# EAGLE library part GYRO_DUAL_XY (library SUCHAI)
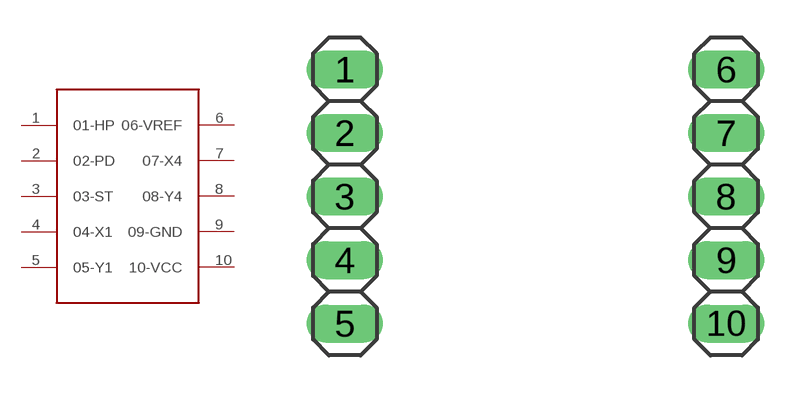
[diagram p3: symbol with the pads of 1X05; footprint 1X05]

Designator prefix -

## GYRO_DUAL_XY  [1X05]
1  01-HP
2  02-PD
3  03-ST
4  04-X1
5  05-Y1
6  06-VREF
7  07-X4
8  08-Y4
9  09-GND
10  10-VCC

## Footprint 1X05 (pad centres in mm)
Pin header for Sparkfun's gyroscopes Distance (bw columns) : 15, 24 mm / 0.6 inches Pitch : 2.54 mm / 0.1 inches
drill 1.016 long: 1 -7.62,5.08; 2 -7.62,2.54; 3 -7.62,0; 4 -7.62,-2.54; 5 -7.62,-5.08; 6 7.62,5.08; 7 7.62,2.54; 8 7.62,0; 9 7.62,-2.54; 10 7.62,-5.08